# Altium footprint library CUI_TBP03R2-350-08BE.PcbLib: 1 footprints
Each footprint in its own frame and in the unit in brackets; x right, y up, seen from the top. Pads: shape width x height; smd on the part's side, far side on the other; paste and mask are expansions set on the pad; w line width, h text height; cw(c..) or ccw(c..) is an arc to the next point about the centre after c.
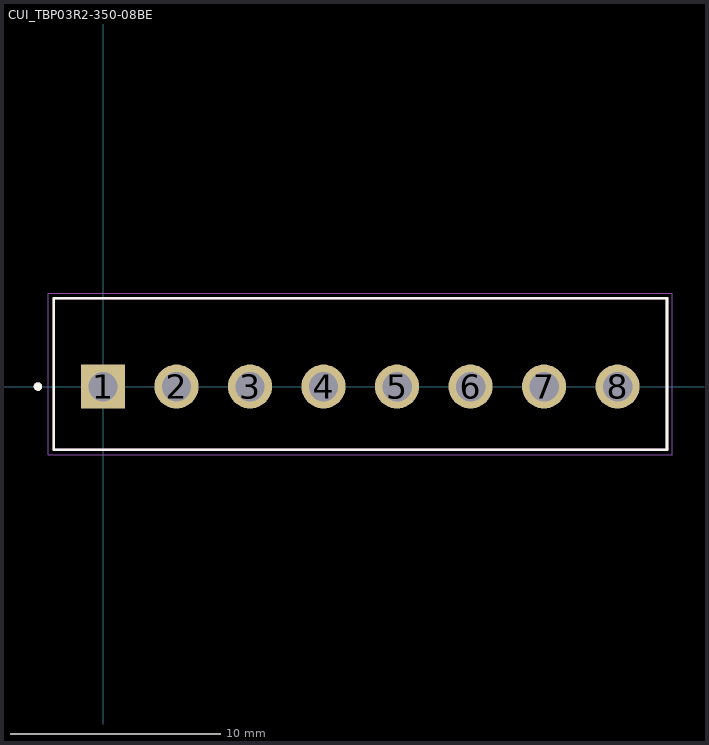
[diagram p0: the footprint, top view; thin cyan lines are the x and y axes]

## CUI_TBP03R2-350-08BE [mm]
height 9.5
pads (8):
  rect 2.1x2.1 / inner round 2.1 / far side rect 2.1x2.1 hole 1.4 mask+0.102: 1(0,0)
  round 2.1 hole 1.4 mask+0.102: 2(3.5,0) 3(7,0) 4(10.5,0) 5(14,0) 6(17.5,0) 7(21,0) 8(24.5,0)
Top Overlay:
  circle w0.2: c-3.1,0 r0.1
  lines w0.127: -2.35,-3 26.85,-3 26.85,4.2 -2.35,4.2 -2.35,-3
Assembly Top:
  circle w0.2: c-3.1,0 r0.1
  lines w0.127: -2.35,-3 26.85,-3 26.85,4.2 -2.35,4.2 -2.35,-3
Courtyard Top:
  lines w0.05: -2.6,-3.25 -2.6,4.45 27.1,4.45 27.1,-3.25 -2.6,-3.25
3D body "step_temp.STEP": height 9.17, standoff -3.43, extent -2.408,-3.009 26.792,4.191